# Altium schematic symbol library 1-1734577-3-rj45-8p8c.SchLib: 1 symbol
Pins are listed as number, name and electrical type; pins without a type are passive.

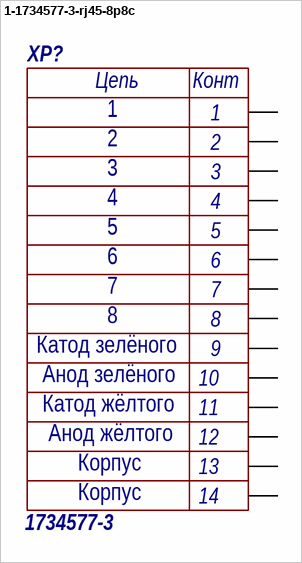
[diagram p0: symbol 1-1734577-3-rj45-8p8c]

## 1-1734577-3-rj45-8p8c
designator XP?, comment 1734577-3
pins: 1, 2, 3, 4, 5, 6, 7, 8, 9, 10, 11, 12, MH1, MH2
text: Цепь; Конт; Катод зелёного; Анод зелёного; Катод жёлтого; Анод жёлтого; Корпус; 13; 14